# Altium footprint library MCU.PcbLib: 17 footprints (part 2 of 2)
Each footprint in its own frame and in the unit in brackets; x right, y up, seen from the top. Pads: shape width x height; smd on the part's side, far side on the other; paste and mask are expansions set on the pad; w line width, h text height; cw(c..) or ccw(c..) is an arc to the next point about the centre after c.
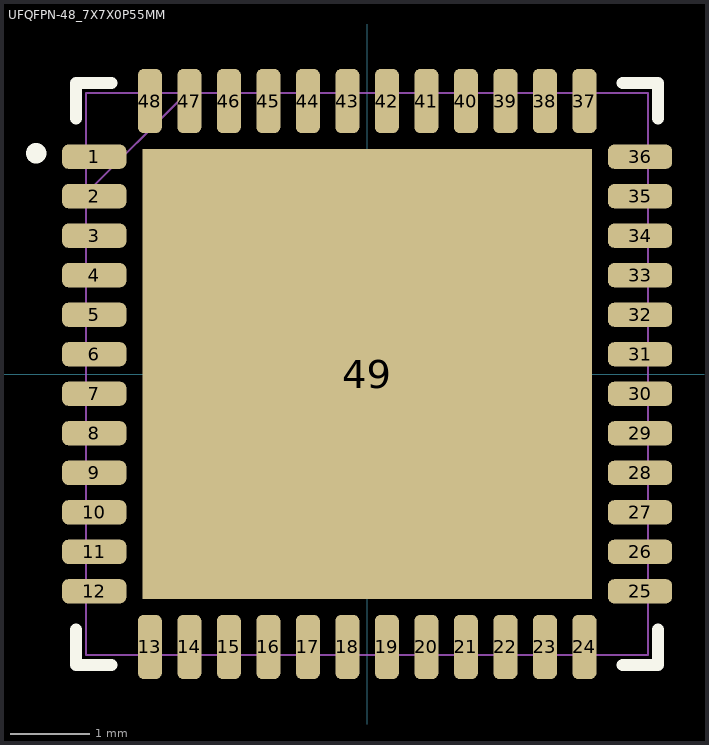
[diagram p1: the footprint, top view; thin cyan lines are the x and y axes]

## UFQFPN-48_7X7X0P55MM [mil]
pads (49):
  rrect50% 32x12 smd paste+0 mask+0: 1(-136,108.27) 2(-136,88.58) 3(-136,68.9) 4(-136,49.21) 5(-136,29.53) 6(-136,9.84) 7(-136,-9.84) 8(-136,-29.53) 9(-136,-49.21) 10(-136,-68.9) 11(-136,-88.58) 12(-136,-108.27) 25(136,-108.27) 26(136,-88.58) 27(136,-68.9) 28(136,-49.21) 29(136,-29.53) 30(136,-9.84) 31(136,9.84) 32(136,29.53) 33(136,49.21) 34(136,68.9) 35(136,88.58) 36(136,108.27)
  rrect50% 12x32 smd paste+0 mask+0: 13(-108.27,-136) 14(-88.58,-136) 15(-68.9,-136) 16(-49.21,-136) 17(-29.53,-136) 18(-9.84,-136) 19(9.84,-136) 20(29.53,-136) 21(49.21,-136) 22(68.9,-136) 23(88.58,-136) 24(108.27,-136) 37(108.27,136) 38(88.58,136) 39(68.9,136) 40(49.21,136) 41(29.53,136) 42(9.84,136) 43(-9.84,136) 44(-29.53,136) 45(-49.21,136) 46(-68.9,136) 47(-88.58,136) 48(-108.27,136)
  rect 224x224 smd paste-111.5 mask+0: 49(0,0)
Top Overlay:
  circle w10: c-165,110 r0.1
  lines w6: -145,-127.37 -145,-145 -127.37,-145 ; -145,127.37 -145,145 -127.37,145 ; 127.37,-145 145,-145 145,-127.37 ; 127.37,145 145,145 145,127.37
Top Paste:
  region: 108.06,-59.94 59.94,-59.94 59.94,-108.06 108.06,-108.06
  region: 108.06,-3.94 59.94,-3.94 59.94,-52.06 108.06,-52.06
  region: 108.06,52.06 59.94,52.06 59.94,3.94 108.06,3.94
  region: 108.06,108.06 59.94,108.06 59.94,59.94 108.06,59.94
  region: 52.06,-59.94 3.94,-59.94 3.94,-108.06 52.06,-108.06
  region: 52.06,-3.94 3.94,-3.94 3.94,-52.06 52.06,-52.06
  region: 52.06,52.06 3.94,52.06 3.94,3.94 52.06,3.94
  region: 52.06,108.06 3.94,108.06 3.94,59.94 52.06,59.94
  region: -3.94,-59.94 -52.06,-59.94 -52.06,-108.06 -3.94,-108.06
  region: -3.94,-3.94 -52.06,-3.94 -52.06,-52.06 -3.94,-52.06
  region: -3.94,52.06 -52.06,52.06 -52.06,3.94 -3.94,3.94
  region: -3.94,108.06 -52.06,108.06 -52.06,59.94 -3.94,59.94
  region: -59.94,-59.94 -108.06,-59.94 -108.06,-108.06 -59.94,-108.06
  region: -59.94,-3.94 -108.06,-3.94 -108.06,-52.06 -59.94,-52.06
  region: -59.94,52.06 -108.06,52.06 -108.06,3.94 -59.94,3.94
  region: -59.94,108.06 -108.06,108.06 -108.06,59.94 -59.94,59.94
Mechanical 13:
  lines w1: -140,90 -90,140 ; -140,-140 -140,140 140,140 140,-140 -140,-140 ; -140,-114.27 -140,-102.27 -140,-114.27 ; -140,-94.58 -140,-82.58 -140,-94.58 ; -140,-74.9 -140,-62.9 -140,-74.9 ; -140,-55.21 -140,-43.21 -140,-55.21 ; -140,-35.53 -140,-23.53 -140,-35.53 ; -140,-15.84 -140,-3.84 -140,-15.84 ; -140,3.84 -140,15.84 -140,3.84 ; -140,23.53 -140,35.53 -140,23.53 ; -140,43.21 -140,55.21 -140,43.21 ; -140,62.9 -140,74.9 -140,62.9 ; -140,82.58 -140,94.58 -140,82.58 ; -140,102.27 -140,114.27 -140,102.27 ; -114.27,-140 -102.27,-140 -114.27,-140 ; -114.27,140 -102.27,140 -114.27,140 ; -94.58,-140 -82.58,-140 -94.58,-140 ; -94.58,140 -82.58,140 -94.58,140 ; -74.9,-140 -62.9,-140 -74.9,-140 ; -74.9,140 -62.9,140 -74.9,140 ; -55.21,-140 -43.21,-140 -55.21,-140 ; -55.21,140 -43.21,140 -55.21,140 ; -35.53,-140 -23.53,-140 -35.53,-140 ; -35.53,140 -23.53,140 -35.53,140 ; -15.84,-140 -3.84,-140 -15.84,-140 ; -15.84,140 -3.84,140 -15.84,140 ; 3.84,-140 15.84,-140 3.84,-140 ; 3.84,140 15.84,140 3.84,140 ; 23.53,-140 35.53,-140 23.53,-140 ; 23.53,140 35.53,140 23.53,140 ; 43.21,-140 55.21,-140 43.21,-140 ; 43.21,140 55.21,140 43.21,140 ; 62.9,-140 74.9,-140 62.9,-140 ; 62.9,140 74.9,140 62.9,140 ; 82.58,-140 94.58,-140 82.58,-140 ; 82.58,140 94.58,140 82.58,140 ; 102.27,-140 114.27,-140 102.27,-140 ; 102.27,140 114.27,140 102.27,140 ; 140,-114.27 140,-102.27 140,-114.27 ; 140,-94.58 140,-82.58 140,-94.58 ; 140,-74.9 140,-62.9 140,-74.9 ; 140,-55.21 140,-43.21 140,-55.21 ; 140,-35.53 140,-23.53 140,-35.53 ; 140,-15.84 140,-3.84 140,-15.84 ; 140,3.84 140,15.84 140,3.84 ; 140,23.53 140,35.53 140,23.53 ; 140,43.21 140,55.21 140,43.21 ; 140,62.9 140,74.9 140,62.9 ; 140,82.58 140,94.58 140,82.58 ; 140,102.27 140,114.27 140,102.27
  text "*" at -132.5,93.11 h50
3D body "UFQFPN-48_7X7X0P55MM.step": height 24.09, standoff 0, extent -140,-140 140,140